# Altium footprint library HDDR_11x1_0.PcbLib: 1 footprints
Each footprint in its own frame and in the unit in brackets; x right, y up, seen from the top. Pads: shape width x height; smd on the part's side, far side on the other; paste and mask are expansions set on the pad; w line width, h text height; cw(c..) or ccw(c..) is an arc to the next point about the centre after c.
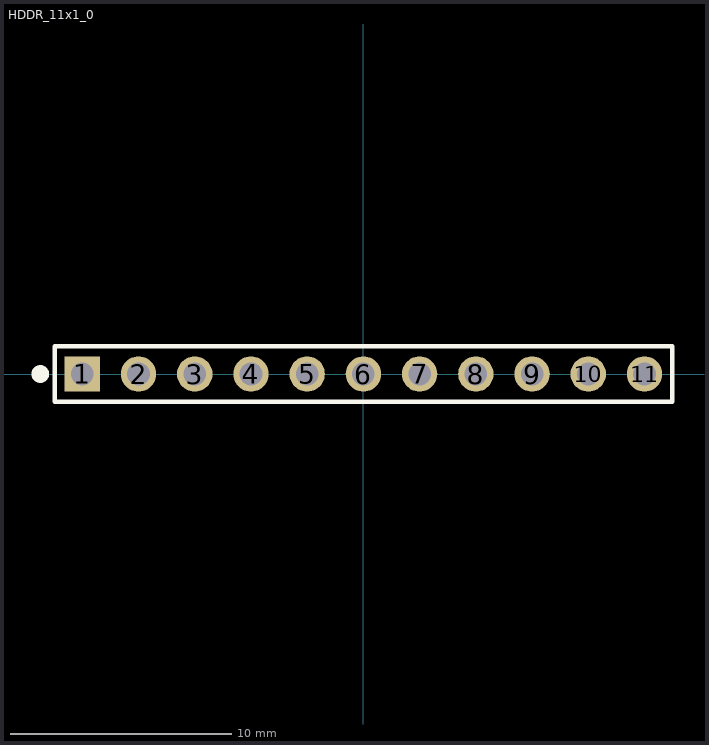
[diagram p0: the footprint, top view; thin cyan lines are the x and y axes]

## HDDR_11x1_0 [mm]
pads (11):
  rect 1.6x1.6 hole 1.02: 1(-12.7,0)
  round 1.6 hole 1.02: 2(-10.16,0) 3(-7.62,0) 4(-5.08,0) 5(-2.54,0) 6(0,0) 7(2.54,0) 8(5.08,0) 9(7.62,0) 10(10.16,0) 11(12.7,0)
Top Overlay:
  circle w0.4: c-14.6,0 r0.2
  lines w0.2: -13.95,-1.25 13.95,-1.25 13.95,1.25 -13.95,1.25 -13.95,-1.25
3D body "hddr_male_11x1.SLDPRT": height 8.54, standoff -3, extent -13.97,-1.29 13.97,1.25